# Altium schematic symbol library WRIS-PWMC.SchLib: 4 symbols
Pins are listed as number, name and electrical type; pins without a type are passive.

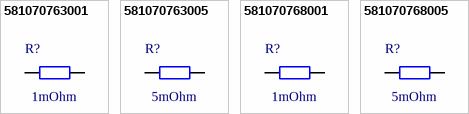
[diagram p0: symbols 581070763001 to 581070768005]

## 581070763001
designator R?, comment 1mOhm
WRIS-PWMC Metal Plate Resistor, SMT, size 1225, 1mOhm, 3W, +/-1%; Manufacturer Part Number: 581070763001; Manufacturer: Wurth Elektronik; Case/Size Code: 1225; Rated Current: 54.77A; Temperature Coefficient of Resistance: +/-100ppm/°C; Category: Metal Plate Resistors; Match Code: WRIS-PWMC; ComponentLink1Description: Website Link; ComponentLink1URL: https://www.we-online.com/redexpert/article/581070763001?ad; ComponentLink2Description: Datasheet Link; ComponentLink2URL: https://www.we-online.com/redexpert/spec/581070763001?ad; Mount: Surface Mount; Operating Temperature Min: -55°C; Operating Temperature Max: 170°C; Packaging: Tape and Reel; Length: 3.2mm; Width: 6.3mm; Height: 0.2mm; Rated Power: 3W; Resistance: 1mOhm; Resistance Tolerance: +/-1%
footprint WRIS-PWMC_1225_L3.2W6.3H0.2
pins: 1, 2

## 581070763005
designator R?, comment 5mOhm
WRIS-PWMC Metal Plate Resistor, SMT, size 1225, 5mOhm, 3W, +/-1%; Manufacturer Part Number: 581070763005; Manufacturer: Wurth Elektronik; Case/Size Code: 1225; Rated Current: 24.49A; Temperature Coefficient of Resistance: +/-100ppm/°C; Category: Metal Plate Resistors; Match Code: WRIS-PWMC; ComponentLink1Description: Website Link; ComponentLink1URL: https://www.we-online.com/redexpert/article/581070763005?ad; ComponentLink2Description: Datasheet Link; ComponentLink2URL: https://www.we-online.com/redexpert/spec/581070763005?ad; Mount: Surface Mount; Operating Temperature Min: -55°C; Operating Temperature Max: 170°C; Packaging: Tape and Reel; Length: 3.2mm; Width: 6.3mm; Height: 0.2mm; Rated Power: 3W; Resistance: 5mOhm; Resistance Tolerance: +/-1%
footprint WRIS-PWMC_1225_L3.2W6.3H0.2
pins: 1, 2

## 581070768001
designator R?, comment 1mOhm
WRIS-PWMC Metal Plate Resistor, SMT, size 2043, 1mOhm, 6W, +/-1%; Manufacturer Part Number: 581070768001; Manufacturer: Wurth Elektronik; Case/Size Code: 2043; Rated Current: 77.46A; Temperature Coefficient of Resistance: +/-100ppm/°C; Category: Metal Plate Resistors; Match Code: WRIS-PWMC; ComponentLink1Description: Website Link; ComponentLink1URL: https://www.we-online.com/redexpert/article/581070768001?ad; ComponentLink2Description: Datasheet Link; ComponentLink2URL: https://www.we-online.com/redexpert/spec/581070768001?ad; Mount: Surface Mount; Operating Temperature Min: -55°C; Operating Temperature Max: 170°C; Packaging: Tape and Reel; Length: 5mm; Width: 11mm; Height: 0.2mm; Rated Power: 6W; Resistance: 1mOhm; Resistance Tolerance: +/-1%
footprint WRIS-PWMC_2043_L5W11H0.2
pins: 1, 2

## 581070768005
designator R?, comment 5mOhm
WRIS-PWMC Metal Plate Resistor, SMT, size 2043, 5mOhm, 6W, +/-1%; Manufacturer Part Number: 581070768005; Manufacturer: Wurth Elektronik; Case/Size Code: 2043; Rated Current: 34.6A; Temperature Coefficient of Resistance: +/-100ppm/°C; Category: Metal Plate Resistors; Match Code: WRIS-PWMC; ComponentLink1Description: Website Link; ComponentLink1URL: https://www.we-online.com/redexpert/article/581070768005?ad; ComponentLink2Description: Datasheet Link; ComponentLink2URL: https://www.we-online.com/redexpert/spec/581070768005?ad; Mount: Surface Mount; Operating Temperature Min: -55°C; Operating Temperature Max: 170°C; Packaging: Tape and Reel; Length: 5mm; Width: 11mm; Height: 0.2mm; Rated Power: 6W; Resistance: 5mOhm; Resistance Tolerance: +/-1%
footprint WRIS-PWMC_2043_L5W11H0.2
pins: 1, 2